# Altium footprint library HDT0004.PcbLib: 1 footprints
Each footprint in its own frame and in the unit in brackets; x right, y up, seen from the top. Pads: shape width x height; smd on the part's side, far side on the other; paste and mask are expansions set on the pad; w line width, h text height; cw(c..) or ccw(c..) is an arc to the next point about the centre after c.
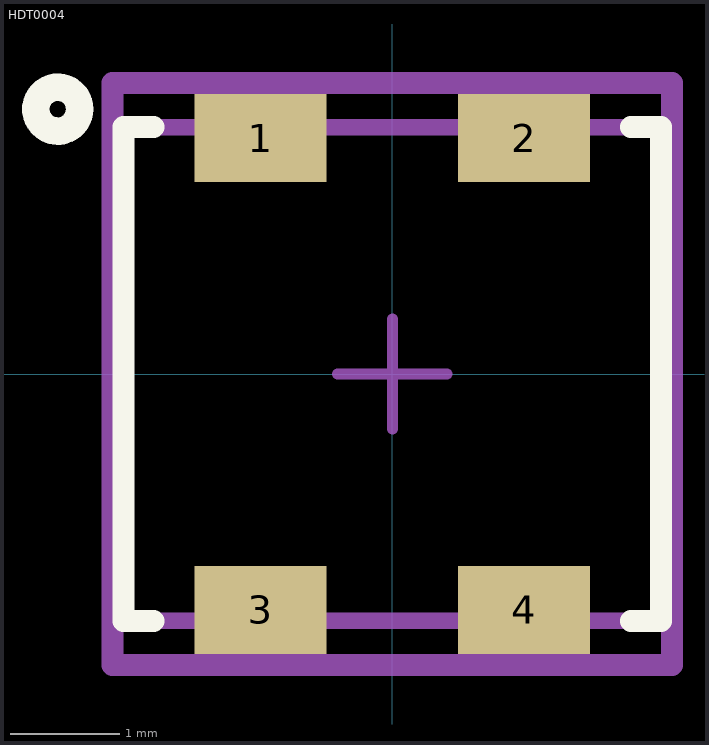
[diagram p0: the footprint, top view; thin cyan lines are the x and y axes]

## HDT0004 [mm] "Low actuation force limit switch"
height 3.8
pads (4):
  rect 1.2x0.8 smd paste+0 mask+0: 1(-1.2,2.15) 2(1.2,2.15) 3(-1.2,-2.15) 4(1.2,-2.15)
Top Overlay:
  circle w0.25: c-3.048,2.413 r0.2
  lines w0.2: -2.175,-2.25 -2.45,-2.25 -2.45,2.25 -2.175,2.25 ; 2.175,-2.25 2.45,-2.25 2.45,2.25 2.175,2.25
Mechanical 10:
  lines w0.2: -2.55,-2.65 -2.55,2.65 2.55,2.65 2.55,-2.65 -2.55,-2.65
Mechanical 12:
  lines w0.15: -2.45,-2.25 -2.45,2.25 2.45,2.25 2.45,-2.25 -2.45,-2.25
Mechanical 15:
  lines w0.1: -0.5,0 0.5,0 ; 0,-0.5 0,0.5
  lines w0.2: -2.55,-2.65 -2.55,2.65 2.55,2.65 2.55,-2.65 -2.55,-2.65
3D body: height 0.25, standoff 0, extent 0,0 0,0
3D body "HDT0004.stp": height 3.77, standoff 0, extent -2.45,-2.35 2.45,2.35